# Altium schematic symbol library PCB_STM32_LCD_1.SCHLIB: 33 symbols
Pins are listed as number, name and electrical type; pins without a type are passive.

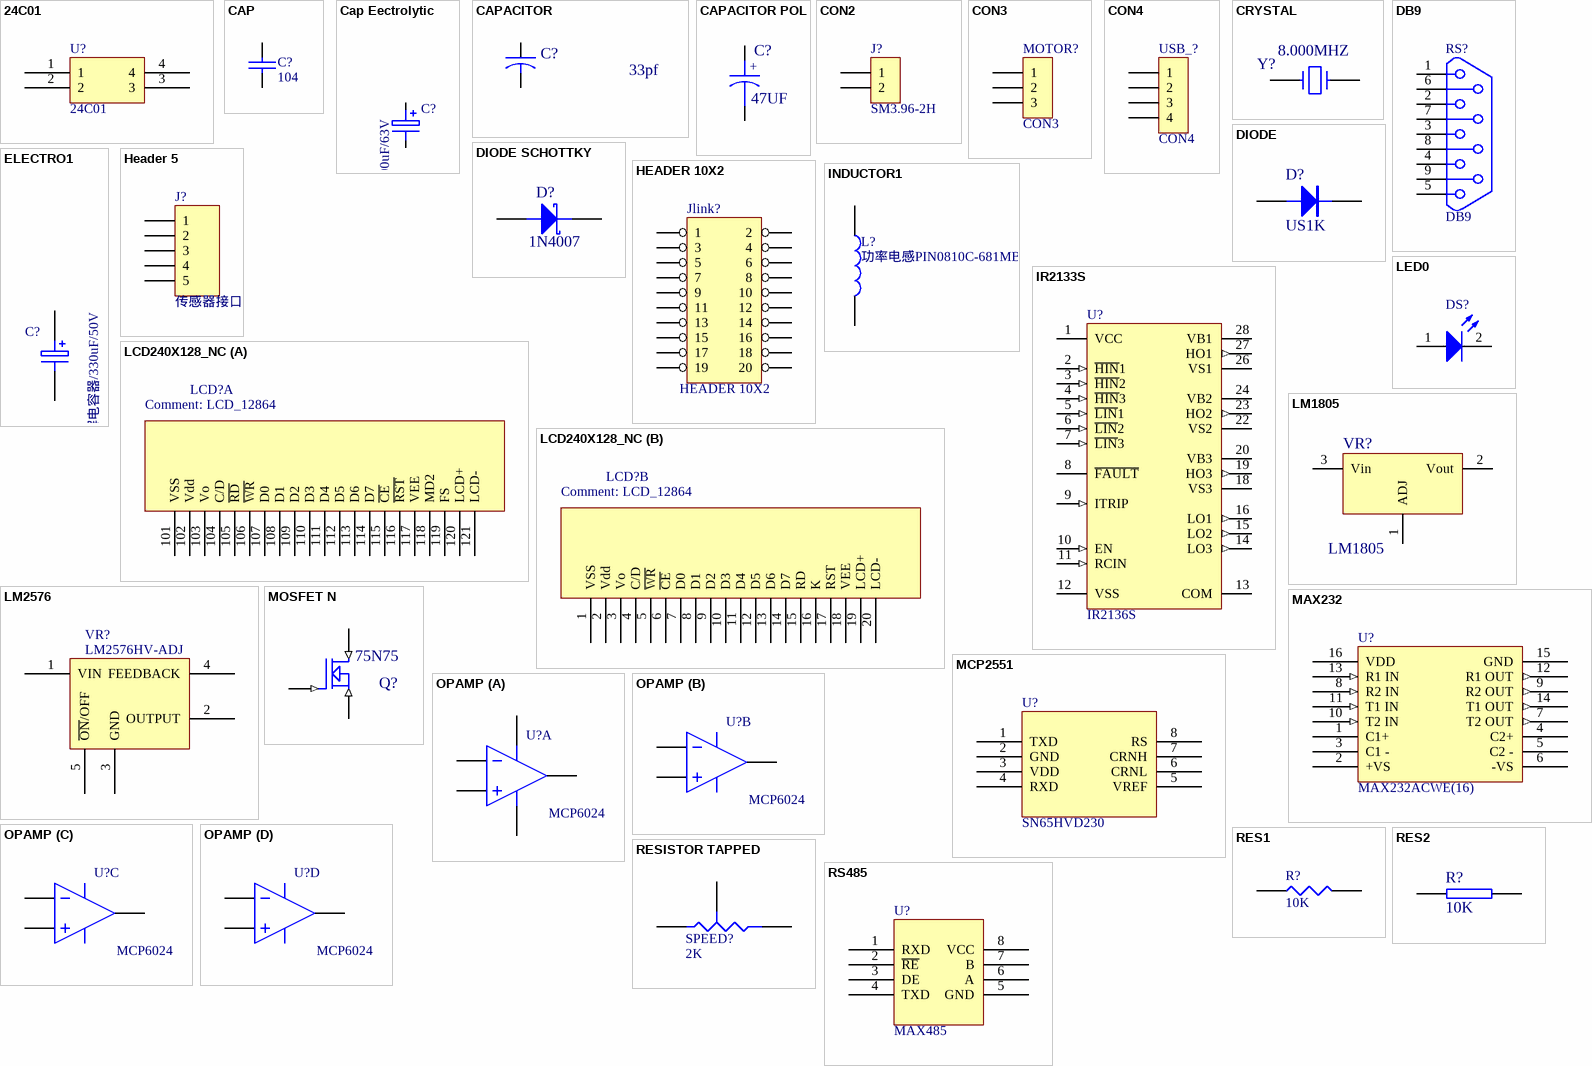
[diagram p0: symbols 24C01 to RS485]

## 24C01
designator U?
footprint DIP4
pins: 1, 2, 3, 4

## CAP
designator C?, comment 104
Capacitor
footprint 0805
footprint 0805C
pins: 1, 2
2 alternate drawings of the same symbol

## Cap Eectrolytic
designator C?, comment 1000uF/63V
铝电解电容器/1000uF/63V/D16x25/105度/风华(LY系列)
footprint CD0.193cm
footprint CD0.254cm-1
footprint CD0.254cm
footprint CD0.254cm-2
footprint RB.2/.4 (电?)
pins: 1, 2
2 alternate drawings of the same symbol

## CAPACITOR
designator C?, comment 33pf
Capacitor
footprint 0603
footprint 0805C
pins: 1, 2
2 alternate drawings of the same symbol

## CAPACITOR POL
designator C?, comment 47UF
Capacitor
footprint DS_0.1
footprint RB-.1/.2
pins: 1, 2
2 alternate drawings of the same symbol
text: +

## CON2
designator J?, comment SM3.96-2H
Connector
footprint JP1
footprint VH3.96/2
footprint CONNECTOR-2 -8.25
pins: 1, 2
2 alternate drawings of the same symbol

## CON3
designator MOTOR?
Connector
footprint CONNECTOR-3 - duplicate (300V  25A)
pins: 1, 2, 3

## CON4
designator USB_?
Connector
footprint USB-B
pins: 1, 2, 3, 4

## CRYSTAL
designator Y?, comment 8.000MHZ
Crystal
footprint JZ
pins: 1, 2
2 alternate drawings of the same symbol

## DB9
designator RS?
footprint DB-9/M
footprint DB9SL - duplicate
pins: 1, 2, 3, 4, 5, 6, 7, 8, 9

## DIODE
designator D?, comment US1K
Diode
footprint SMA (DO-214AC to M7/1N4007 diodes)
pins: 1 A, 2 K

## DIODE SCHOTTKY
designator D?, comment 1N4007
Schottky Diode
footprint SMA (DO-214AC to M7/1N4007 diodes)
pins: 1 A, 2 K

## ELECTRO1
designator C?, comment 铝电解电容器/330uF/50V
铝电解电容器/330uF/50V/D10x20/低阻抗/105度/风华(LY系列)
footprint RB-.1/.2
pins: 1, 2
2 alternate drawings of the same symbol

## Header 5
designator J?, comment 传感器接口
Header, 5-Pin; LatestRevisionDate: 17-Jul-2002; LatestRevisionNote: Re-released for DXP Platform.; Publisher: Altium Limited
footprint CON5- duplicate
signal-integrity model Connector
pins: 1, 2, 3, 4, 5

## HEADER 10X2
designator Jlink?
footprint IDC20 - duplicate
pins: 1, 2, 3, 4, 5, 6, 7, 8, 9, 10, 11, 12, 13, 14, 15, 16, 17, 18, 19, 20
2 alternate drawings of the same symbol

## INDUCTOR1
designator L?, comment 功率电感PIN0810C-681MB
680uH/±20%/0.55A/D8.6*11.2 引脚5.0/风华/500
footprint L (D9-13)
footprint L300
pins: 1, 2
2 alternate drawings of the same symbol

## IR2133S
designator U?, comment IR2136S
3-Phase Bridge Driver; Published: 8-Jun-2000; LatestRevisionDate: 13-Apr-2006; LatestRevisionNote: IPC-7351 Footprint Added.; DatasheetVersion: PD60107J; PackageReference: SOIC28; Publisher: Altium Limited; PackageDescription: 28-Pin Small Outline Integrated Circuit 1.27 mm Pitch; ComponentLink1Description: Manufacturer Link; ComponentLink1URL: http://www.irf.com/; ComponentLink2Description: Datasheet; ComponentLink2URL: http://www.irf.com/product-info/datasheets/data/ir2133.pdf
footprint SOIC28_N - duplicate (SOIC, 28-Leads, Body 17.9x7.5mm, Pitch 1.27mm, IPC Medium Density)
footprint SOIC28_L (SOIC, 28-Leads, Body 17.9x7.5mm, Pitch 1.27mm, IPC High Density)
footprint SOIC28_M (SOIC, 28-Leads, Body 17.9x7.5mm, Pitch 1.27mm, IPC Low Density)
3D model SOIC28 (28-Pin Small Outline Integrated Circuit 1.27 mm Pitch)
pins: 1 VCC (power), 2 ~{HIN}1 (in), 3 ~{HIN}2 (in), 4 ~{HIN}3 (in), 5 ~{LIN}1 (in), 6 ~{LIN}2 (in), 7 ~{LIN}3 (in), 8 ~{FAULT} (oc), 9 ITRIP (in), 10 EN (in), 11 RCIN (in), 12 VSS (power), 13 COM (power), 14 LO3 (out), 15 LO2 (out), 16 LO1 (out), 18 VS3 (power), 19 HO3 (out), 20 VB3 (power), 22 VS2 (power), 23 HO2 (out), 24 VB2 (power), 26 VS1 (power), 27 HO1 (out), 28 VB1 (power)

## LCD240X128_NC
designator LCD?, comment LCD_12864
footprint LCD_128X64
part A pins: 101 VSS, 102 Vdd, 103 Vo, 104 C/D, 105 ~{RD}, 106 ~{WR}, 107 D0, 108 D1, 109 D2, 110 D3, 111 D4, 112 D5, 113 D6, 114 D7, 115 ~{CE}, 116 ~{RST}, 117 VEE, 118 MD2, 119 FS, 120 LCD+, 121 LCD-
part B pins: 1 VSS, 2 Vdd, 3 Vo, 4 C/D, 5 ~{WR}, 6 ~{CE}, 7 D0, 8 D1, 9 D2, 10 D3, 11 D4, 12 D5, 13 D6, 14 D7, 15 RD, 16 K, 17 RST, 18 VEE, 19 LCD+, 20 LCD-
2 alternate drawings of the same symbol

## LED0
designator DS?
Typical INFRARED GaAs LED; Published: *; Publisher: *; Manufacturer: *; Class: *; SubClass: *
footprint LED-0
footprint DS0805
footprint LED-1206
pins: 1 A, 2 K
2 alternate drawings of the same symbol

## LM1805
designator VR?
footprint TO220H
footprint TO263-3 (TO-263-5 Lead)
pins: 1 ADJ, 2 Vout, 3 Vin

## LM2576
designator VR?, comment LM2576HV-ADJ
LM2576HVS-ADJ 贴片
footprint TO263-5 (TO-263-5 Leads /LM2576S)
pins: 1 VIN, 2 OUTPUT, 3 GND, 4 FEEDBACK, 5 ~{ON}/OFF
2 alternate drawings of the same symbol

## MAX232
designator U?, comment MAX232ACWE(16)
footprint SO-16
pins: 1 C1+, 2 +VS, 3 C1 -, 4 C2+, 5 C2 -, 6 -VS, 7 T2 OUT (out), 8 R2 IN (in), 9 R2 OUT (out), 10 T2 IN (in), 11 T1 IN (in), 12 R1 OUT (out), 13 R1 IN (in), 14 T1 OUT (out), 15 GND, 16 VDD

## MCP2551
designator U?, comment SN65HVD230
footprint SO-8
pins: 1 TXD, 2 GND, 3 VDD, 4 RXD, 5 VREF, 6 CRNL, 7 CRNH, 8 RS

## MOSFET N
designator Q?, comment 75N75
footprint IRF540S
pins: 1 G (in), 2 D (in), 3 S (in)

## OPAMP
designator U?, comment MCP6024
Operational Amplifier
footprint SO-14
part A pins: 1 OUT_1, 2 IN_1-, 3 IN_1+, 4 V+, 11 V-
part B pins: 5 IN_2+, 6 IN_2-, 7 OUT_2
part C pins: 8 OUT_3, 9 IN_3-, 10 IN_3+
part D pins: 12 IN_4+, 13 IN_4-, 14 OUT_4

## RES1
designator R?, comment 10K
footprint 0805R
pins: 1, 2

## RES2
designator R?, comment 10K
footprint 0603
footprint 0805R
pins: 1, 2
2 alternate drawings of the same symbol

## RESISTOR TAPPED
designator SPEED?, comment 2K
footprint POT - 1
pins: 1 A, 2 TAP, 3 B

## RS485
designator U?, comment MAX485
footprint SO-8
pins: 1 RXD, 2 ~{RE}, 3 DE, 4 TXD, 5 GND, 6 A, 7 B, 8 VCC

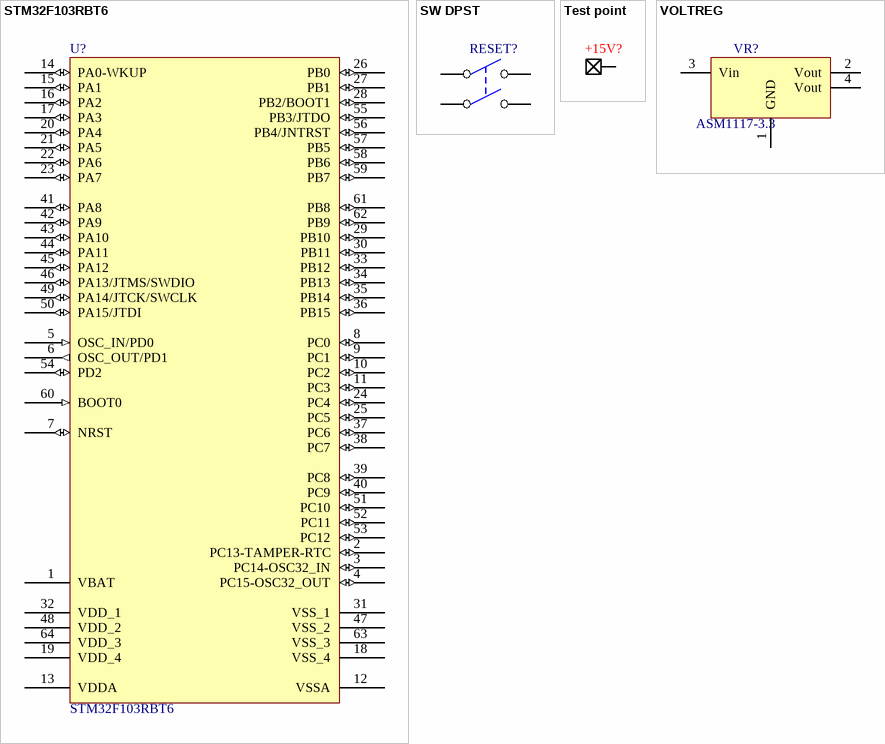
[diagram p1: symbols STM32F103RBT6 to VOLTREG]

## STM32F103RBT6
designator U?
STM32 ARM-based 32-bit MCU with 128 Kbytes Flash, 64-pin LQFP, Industrial Temperature; Published: *; DatasheetVersion: *; PackageVersion: *; PackageReference: *; Publisher: *; PackageDescription: *; ComponentLink1Description: *; ComponentLink1URL: *; ComponentLink2Description: *; ComponentLink2URL: *
footprint LQFP64_N
footprint LQFP64_L
footprint LQFP64_M
footprint TQFP64
pins: 1 VBAT (power), 2 PC13-TAMPER-RTC (io), 3 PC14-OSC32_IN (io), 4 PC15-OSC32_OUT (io), 5 OSC_IN/PD0 (in), 6 OSC_OUT/PD1 (out), 7 NRST (io), 8 PC0 (io), 9 PC1 (io), 10 PC2 (io), 11 PC3 (io), 12 VSSA (power), 13 VDDA (power), 14 PA0-WKUP (io), 15 PA1 (io), 16 PA2 (io), 17 PA3 (io), 18 VSS_4 (power), 19 VDD_4 (power), 20 PA4 (io), 21 PA5 (io), 22 PA6 (io), 23 PA7 (io), 24 PC4 (io), 25 PC5 (io), 26 PB0 (io), 27 PB1 (io), 28 PB2/BOOT1 (io), 29 PB10 (io), 30 PB11 (io), 31 VSS_1 (power), 32 VDD_1 (power), 33 PB12 (io), 34 PB13 (io), 35 PB14 (io), 36 PB15 (io), 37 PC6 (io), 38 PC7 (io), 39 PC8 (io), 40 PC9 (io), 41 PA8 (io), 42 PA9 (io), 43 PA10 (io), 44 PA11 (io), 45 PA12 (io), 46 PA13/JTMS/SWDIO (io), 47 VSS_2 (power), 48 VDD_2 (power), 49 PA14/JTCK/SWCLK (io), 50 PA15/JTDI (io), 51 PC10 (io), 52 PC11 (io), 53 PC12 (io), 54 PD2 (io), 55 PB3/JTDO (io), 56 PB4/JNTRST (io), 57 PB5 (io), 58 PB6 (io), 59 PB7 (io), 60 BOOT0 (in), 61 PB8 (io), 62 PB9 (io), 63 VSS_3 (power), 64 VDD_3 (power)
2 alternate drawings of the same symbol

## SW DPST
designator RESET?
footprint KEY
pins: 1 COMMON1, 2 NO1, 3 COMMON2, 4 NO2

## Test point
designator +15V?
footprint Test Point
footprint T_ P
pins: 1
2 alternate drawings of the same symbol

## VOLTREG
designator VR?, comment ASM1117-3.3
footprint TO220H
footprint SOT-223\1
pins: 1 GND, 2 Vout, 3 Vin, 4 Vout
2 alternate drawings of the same symbol